# Altium schematic symbol library 4PINS.SchLib: 1 symbol
Pins are listed as number, name and electrical type; pins without a type are passive.

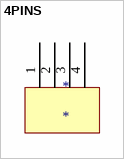
[diagram p0: symbol 4PINS]

## 4PINS
designator *
footprint 4PINS
pins: 1, 2, 3, 4